# Altium footprint library TE_640445-4.PcbLib: 1 footprints
Each footprint in its own frame and in the unit in brackets; x right, y up, seen from the top. Pads: shape width x height; smd on the part's side, far side on the other; paste and mask are expansions set on the pad; w line width, h text height; cw(c..) or ccw(c..) is an arc to the next point about the centre after c.
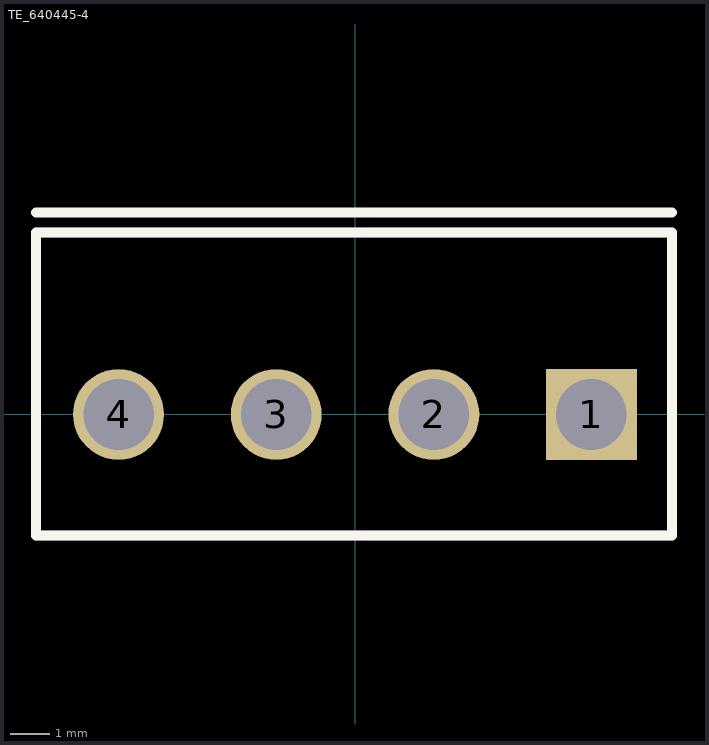
[diagram p0: the footprint, top view; thin cyan lines are the x and y axes]

## TE_640445-4 [mil] "4 pin header"
height 575
pads (4):
  rect 90x90 hole 70: 1(234,0)
  round 90 hole 70: 2(78,0) 3(-78,0) 4(-234,0)
Top Overlay:
  lines w10: -316,200 314,200 ; -316,-120 -316,180 314,180 314,-120 -316,-120
Mechanical 15:
  lines w10: -316,-120 314,-120 314,180 -316,180 -316,-120
Mechanical 17:
  lines w10: -316,-120 -316,180 314,180 314,-120 -316,-120
  text ".Designator" at -274,-60 h60
Mechanical 19:
  lines w10: -316,-120 -316,180 314,180 314,-120 -316,-120
  text ".Comment" at -289,-70 h60
3D body: height 525.2, standoff -124.8, extent -313.47,-119.5 310.53,180.5